# Altium schematic symbol library Atalay_KartTasarimi_Library.SchLib: 26 symbols
Pins are listed as number, name and electrical type; pins without a type are passive.

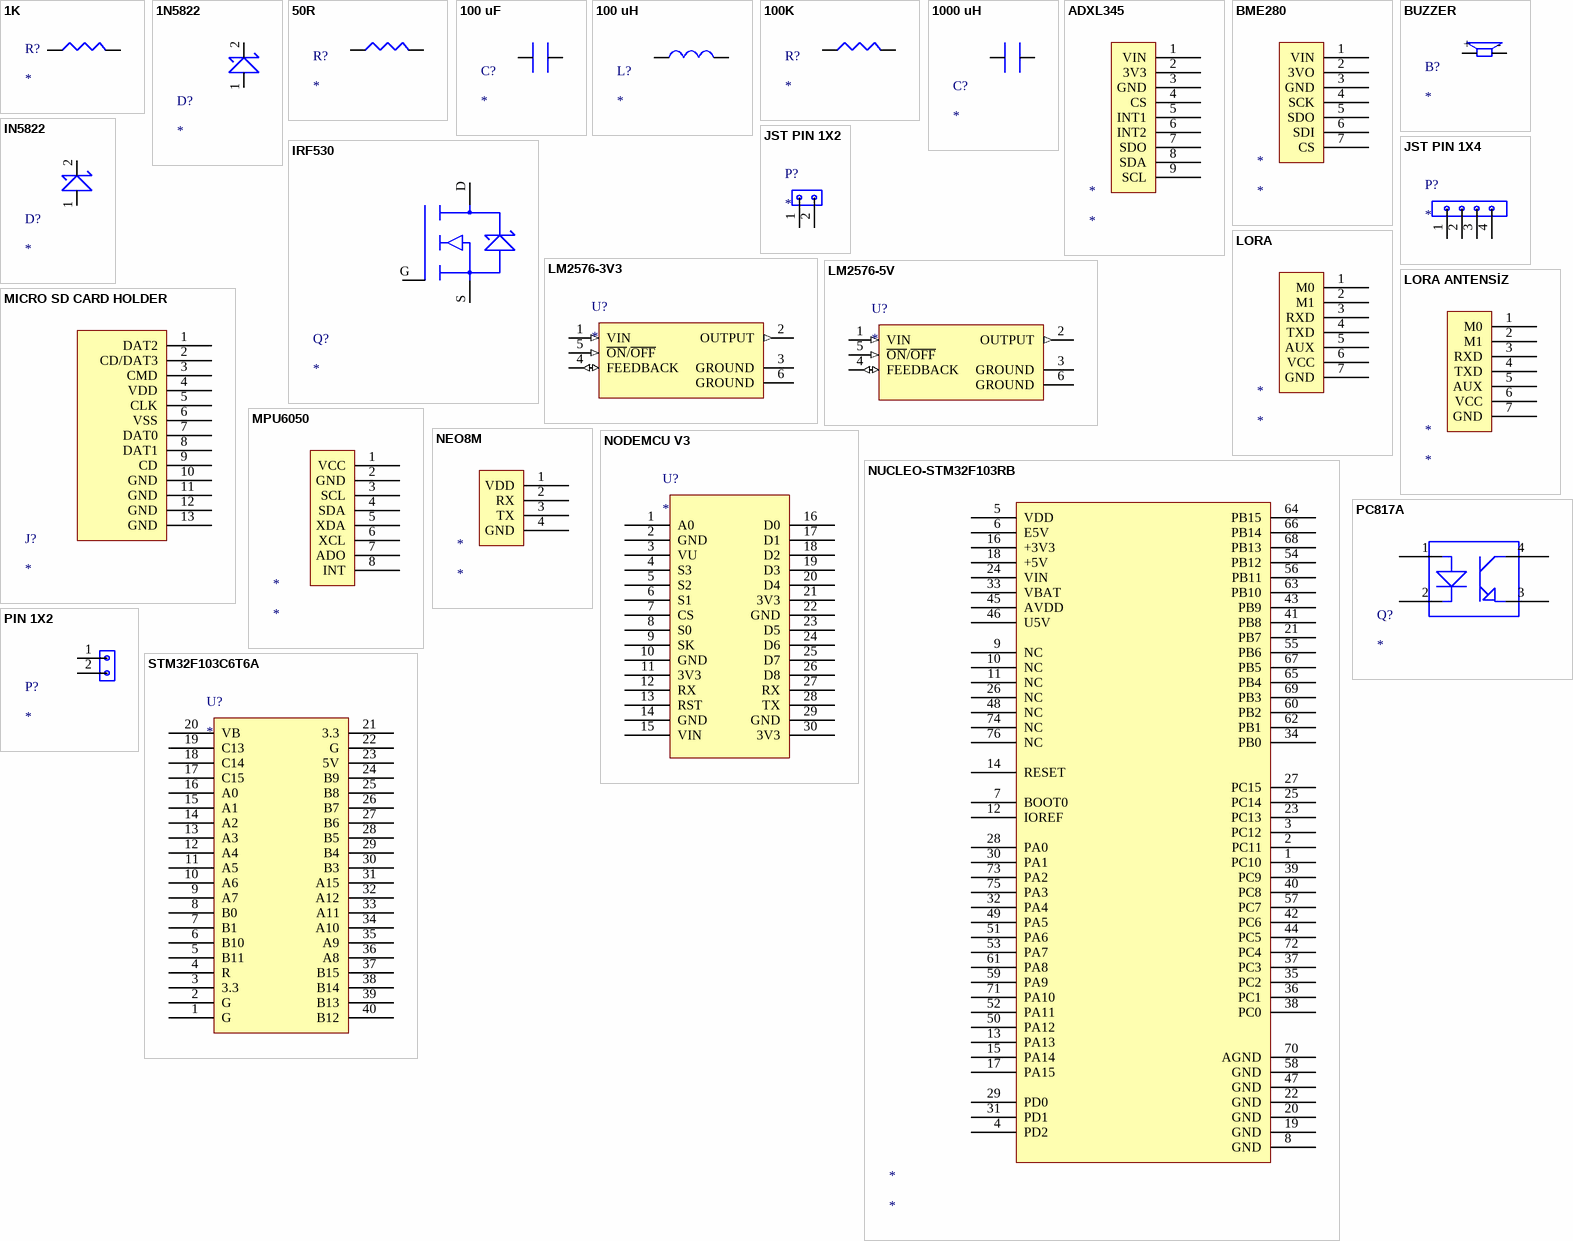
[diagram p0: symbols 1K to STM32F103C6T6A]

## 1K
designator R?
R1206
footprint R1206
pins: 1, 2

## 1N5822
designator D?
footprint 1N5822
pins: 1, 2 0

## 50R
designator R?
R1206
footprint R1206
pins: 1, 2

## 100 uF
designator C?
C1206
footprint C1206
pins: 1, 2

## 100 uH
designator L?
L1206
footprint L1206
pins: 5, 6

## 100K
designator R?
R1206
footprint R1206
pins: 1, 2

## 1000 uH
designator C?
C1206
footprint C1206
pins: 1, 2

## ADXL345
designator *
footprint ADXL345
pins: 1 VIN, 2 3V3, 3 GND, 4 CS, 5 INT1, 6 INT2, 7 SDO, 8 SDA, 9 SCL

## BME280
designator *
footprint BME280
pins: 1 VIN, 2 3VO, 3 GND, 4 SCK, 5 SDO, 6 SDI, 7 CS

## BUZZER
designator B?
footprint BUZZER
pins: + 5, - 5

## IN5822
designator D?
footprint 1N5822
pins: 1 3, 2

## IRF530
designator Q?
footprint IRF530
pins: D 0, G 2, S 1

## JST PIN 1X2
designator P?
2.54 MM
footprint JST 2.54 mm 2 PİN
pins: 1 6, 2 7

## JST PIN 1X4
designator P?
footprint JST 2.54 mm 4 PİN
pins: 1 6, 2 6, 3 6, 4 6

## LM2576-3V3
designator U?
3V3
footprint LM2576
pins: 1 VIN (in), 2 OUTPUT (out), 3 GROUND (oc), 4 FEEDBACK (io), 5 ~{ON}/~{OFF} (in), 6 GROUND (oc)

## LM2576-5V
designator U?
5V
footprint LM2576
pins: 1 VIN (in), 2 OUTPUT (out), 3 GROUND (oc), 4 FEEDBACK (io), 5 ~{ON}/~{OFF} (in), 6 GROUND (oc)

## LORA
designator *
footprint LORA
pins: 1 M0, 2 M1, 3 RXD, 4 TXD, 5 AUX, 6 VCC, 7 GND

## LORA ANTENSİZ
designator *
footprint LORA ANTENSİZ
pins: 1 M0, 2 M1, 3 RXD, 4 TXD, 5 AUX, 6 VCC, 7 GND

## MICRO SD CARD HOLDER
designator J?
SD CARD
footprint MICRO SD CARD HOLDER
pins: 1 DAT2, 2 CD/DAT3, 3 CMD, 4 VDD, 5 CLK, 6 VSS, 7 DAT0, 8 DAT1, 9 CD, 10 GND, 11 GND, 12 GND, 13 GND

## MPU6050
designator *
footprint MPU6050
pins: 1 VCC, 2 GND, 3 SCL, 4 SDA, 5 XDA, 6 XCL, 7 ADO, 8 INT

## NEO8M
designator *
footprint NEO8M
pins: 1 VDD, 2 RX, 3 TX, 4 GND

## NODEMCU V3
designator U?
NodeMCU V3 ESP8266
pins: 1 A0, 2 GND, 3 VU, 4 S3, 5 S2, 6 S1, 7 CS, 8 S0, 9 SK, 10 GND, 11 3V3, 12 RX, 13 RST, 14 GND, 15 VIN, 16 D0, 17 D1, 18 D2, 19 D3, 20 D4, 21 3V3, 22 GND, 23 D5, 24 D6, 25 D7, 26 D8, 27 RX, 28 TX, 29 GND, 30 3V3

## NUCLEO-STM32F103RB
designator *
footprint NUCLEO-STM32F103RB
pins: 1 PC10, 2 PC11, 3 PC12, 4 PD2, 5 VDD, 6 E5V, 7 BOOT0, 8 GND, 9 NC, 10 NC, 11 NC, 12 IOREF, 13 PA13, 14 RESET, 15 PA14, 16 +3V3, 17 PA15, 18 +5V, 19 GND, 20 GND, 21 PB7, 22 GND, 23 PC13, 24 VIN, 25 PC14, 26 NC, 27 PC15, 28 PA0, 29 PD0, 30 PA1, 31 PD1, 32 PA4, 33 VBAT, 34 PB0, 35 PC2, 36 PC1, 37 PC3, 38 PC0, 39 PC9, 40 PC8, 41 PB8, 42 PC6, 43 PB9, 44 PC5, 45 AVDD, 46 U5V, 47 GND, 48 NC, 49 PA5, 50 PA12, 51 PA6, 52 PA11, 53 PA7, 54 PB12, 55 PB6, 56 PB11, 57 PC7, 58 GND, 59 PA9, 60 PB2, 61 PA8, 62 PB1, 63 PB10, 64 PB15, 65 PB4, 66 PB14, 67 PB5, 68 PB13, 69 PB3, 70 AGND, 71 PA10, 72 PC4, 73 PA2, 74 NC, 75 PA3, 76 NC

## PC817A
designator Q?
footprint PC817A
pins: 1 0, 2, 3, 4

## PIN 1X2
designator P?
1.5 MM
footprint JST 1.5 MM 2 PİN
pins: 1 6, 2 7

## STM32F103C6T6A
designator U?
footprint STM32F103C6T6A
pins: 1 G, 2 G, 3 3.3, 4 R, 5 B11, 6 B10, 7 B1, 8 B0, 9 A7, 10 A6, 11 A5, 12 A4, 13 A3, 14 A2, 15 A1, 16 A0, 17 C15, 18 C14, 19 C13, 20 VB, 21 3.3, 22 G, 23 5V, 24 B9, 25 B8, 26 B7, 27 B6, 28 B5, 29 B4, 30 B3, 31 A15, 32 A12, 33 A11, 34 A10, 35 A9, 36 A8, 37 B15, 38 B14, 39 B13, 40 B12